# EAGLE library part RJ45_CONNECTOR (library RJ45_CONNECTOR)
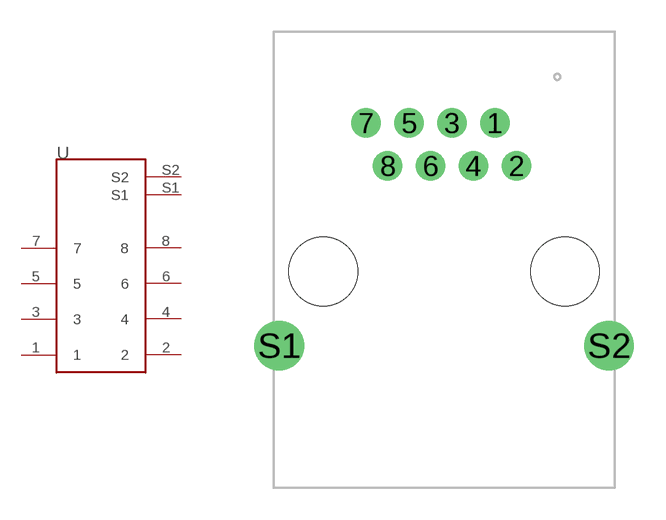
[diagram p0: symbol with the pads of RJ45_CONNNECTOR; footprint RJ45_CONNNECTOR]

Designator prefix -

## RJ45_CONNECTOR  [RJ45_CONNNECTOR]
1  1
2  2
3  3
4  4
5  5
6  6
7  7
8  8
S1  S1
S2  S2

## Footprint RJ45_CONNNECTOR (pad centres in mm)
drill 0.89: 1 10.47,17.27; 2 11.49,15.24; 3 8.44,17.27; 4 9.46,15.24; 5 6.41,17.27; 6 7.43,15.24; 7 4.38,17.27; 8 5.4,15.24
drill 1.57: S1 0.265,6.73; S2 15.865,6.73
hole 3.25 at 2.35,10.24
hole 3.25 at 13.78,10.24